# Altium footprint library SON65P200X90_HS-7N.PcbLib: 1 footprints
Each footprint in its own frame and in the unit in brackets; x right, y up, seen from the top. Pads: shape width x height; smd on the part's side, far side on the other; paste and mask are expansions set on the pad; w line width, h text height; cw(c..) or ccw(c..) is an arc to the next point about the centre after c.
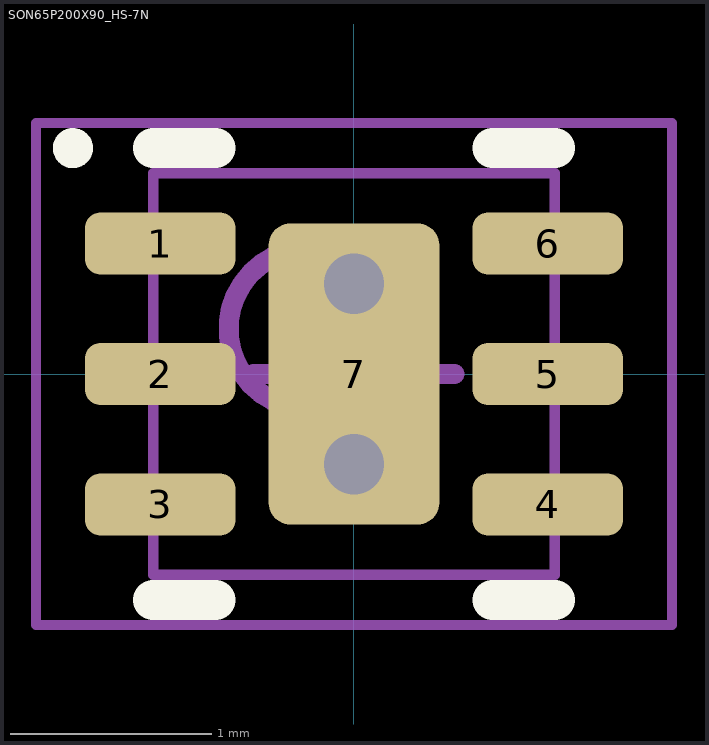
[diagram p0: the footprint, top view; thin cyan lines are the x and y axes]

## SON65P200X90_HS-7N [mm] "SON, 6-Leads, Body 2.00x2.00mm, Pitch 0.65mm, Thermal Pad 1.43x0.78mm, IPC Medium Density"
height 0.9
pads (7):
  rrect50% 0.75x0.31 smd mask+0.05: 1(-0.965,0.65) 2(-0.965,0) 3(-0.965,-0.65) 4(0.965,-0.65) 5(0.965,0) 6(0.965,0.65)
  rrect25% 0.85x1.5 smd mask+0.05: 7(0,0)
via 0,-0.45 diameter 0.6 hole 0.3
via 0,0.45 diameter 0.6 hole 0.3
Top Overlay:
  circle w0.1: c-1.4,1.125 r0.05
  lines w0.2: -1,-1.125 -0.69,-1.125 ; -1,1.125 -0.69,1.125 ; 0.69,-1.125 1,-1.125 ; 0.69,1.125 1,1.125
Top Assembly:
  circle w0.1: c-0.225,0.225 r0.4
  lines w0.05: -1,-1 1,-1 1,1 -1,1 -1,-1
Top Courtyard:
  lines w0.05: -1.585,-1.25 1.585,-1.25 1.585,1.25 -1.585,1.25 -1.585,-1.25
  lines w0.1: -0.5,0 0.5,0 ; 0,-0.5 0,0.5
3D body "SON65P200X90_HS-7N.step": height 0.9, standoff 0, extent -1.05,-1 1.05,1